# Altium footprint library LCD 1-1734592-0 and backlight.PcbLib: 1 footprints
Each footprint in its own frame and in the unit in brackets; x right, y up, seen from the top. Pads: shape width x height; smd on the part's side, far side on the other; paste and mask are expansions set on the pad; w line width, h text height; cw(c..) or ccw(c..) is an arc to the next point about the centre after c.
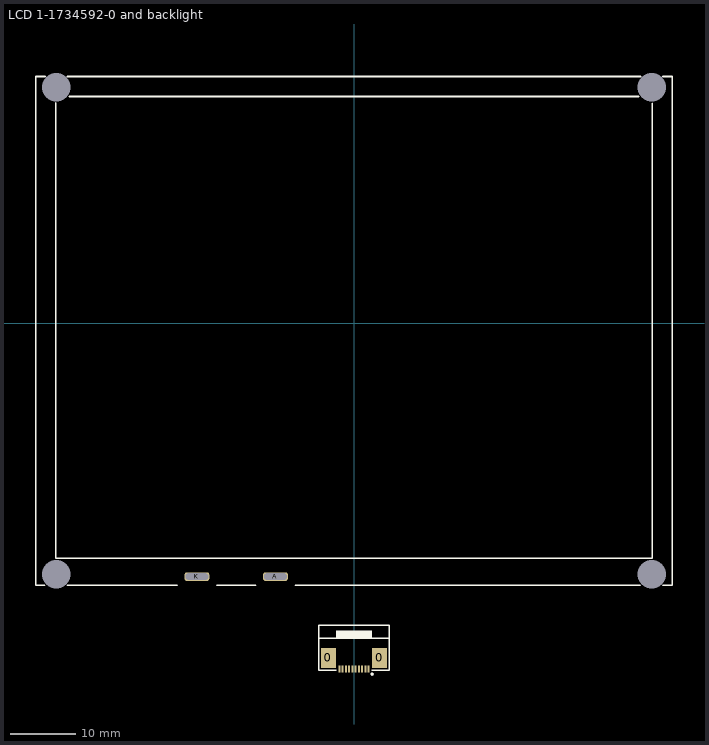
[diagram p0: the footprint, top view; thin cyan lines are the x and y axes]

## LCD 1-1734592-0 and backlight [mm]
pads (18):
  rect 2.3x3.1 smd: 0(-3.92,-51.13) 0(3.92,-51.13)
  rect 0.3x1.1 smd mask+0.051: 1(2.25,-52.83) 2(1.75,-52.83) 3(1.25,-52.83) 4(0.75,-52.83) 5(0.25,-52.83) 6(-0.25,-52.83) 7(-0.75,-52.83) 8(-1.25,-52.83) 9(-1.75,-52.83) 10(-2.25,-52.83)
  rrect50% 3.76x1.3 / inner rrect50% 3.76x1.3 / far side rect 5x3 hole 1 slot 3.5 at 0 deg: A(-12,-38.7) K(-24,-38.7)
  round 0 hole 4.369 unplated: MH(-45.5,-38.33) MH(-45.5,36.07) MH(45.5,-38.33) MH(45.5,36.07)
Top Overlay:
  circle w0.25: c2.773,-53.6 r0.127
  region: -2.75,-47 2.75,-47 2.75,-48.1 -2.75,-48.1
  lines w0.2: -2.7,-53 -5.4,-53 -5.4,-48.1 ; 2.7,-53 5.4,-53 5.4,-48.1 ; -5.4,-48.1 -5.4,-46.1 5.4,-46.1 5.4,-48.1 ; -5.4,-48.1 5.4,-48.1
  lines w0.254: -47.3,-40 -48.625,-40 -48.625,37.73 -47.2,37.73 ; -45.575,33.7 -45.575,-35.9 45.575,-35.9 45.575,33.6 ; -43.8,-40 -27,-40 ; -43.8,37.73 43.8,37.73 ; -43.5,34.68 43.5,34.68 ; -21,-40 -15,-40 ; -9,-40 43.7,-40 ; 47.2,-40 48.625,-40 48.625,37.73 47.2,37.73
3D body: height 3, standoff -1.75, extent -25,-39 -23,-38.4
3D body: height 2.07, standoff 0, extent -5.215,-53.23 5.215,-48.115
3D body: height 3, standoff 0, extent -48.625,34.68 48.625,37.73
3D body: height 3, standoff 0, extent -48.625,-40 -45.575,37.73
3D body: height 3, standoff 0, extent 45.575,-40 48.625,37.73
3D body: height 0, standoff -2, extent 43.516,34.074 47.5,38.066
3D body: height 0, standoff -2, extent 43.516,-40.326 47.5,-36.334
3D body: height 0, standoff -2, extent -47.484,-40.326 -43.5,-36.334
3D body: height 0, standoff -2, extent -47.484,34.074 -43.5,38.066
3D body: height 3, standoff 0, extent -48.625,-40 48.625,-35.9
3D body: height 5.8, standoff 3, extent -48.625,-40 48.625,37.73
3D body: height 3, standoff -1.75, extent -13,-39 -11,-38.4